# Altium footprint library Mechanical.PcbLib: 3 footprints
Each footprint in its own frame and in the unit in brackets; x right, y up, seen from the top. Pads: shape width x height; smd on the part's side, far side on the other; paste and mask are expansions set on the pad; w line width, h text height; cw(c..) or ccw(c..) is an arc to the next point about the centre after c.
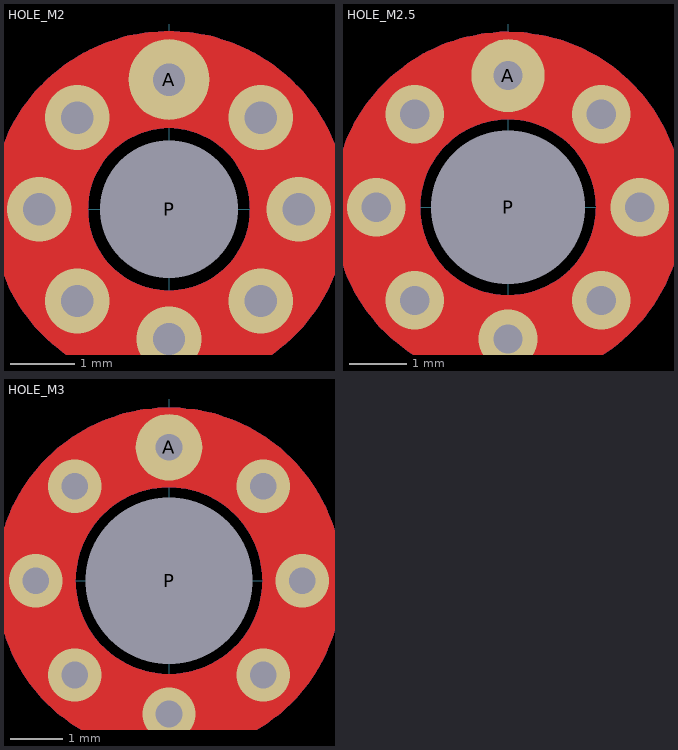
[diagram p0: the footprints below, top view; thin cyan lines are the x and y axes]

## HOLE_M2 [mil] "Example Component"
height 20
pads (2):
  round 50 smd paste-20: A(0,80)
  round 75 hole 85 unplated mask+30: P(0,0)
via 80,0 diameter 40 hole 20
via 56.57,56.57 diameter 40 hole 20
via 0,80 diameter 40 hole 20
via -56.57,56.57 diameter 40 hole 20
via -80,0 diameter 40 hole 20
via -56.57,-56.57 diameter 40 hole 20
via 0,-80 diameter 40 hole 20
via 56.57,-56.57 diameter 40 hole 20
Top Layer:
  circle w60: c0,0 r80
Bottom Layer:
  circle w60: c0,0 r80
Top Designator:
  text ".Designator" at -127.64,-12.5 h35

## HOLE_M2.5 [mil] "Example Component"
height 20
pads (2):
  round 50 smd paste-20: A(0,90)
  round 95 hole 105 unplated mask+30: P(0,0)
via 90,0 diameter 40 hole 20
via 0,90 diameter 40 hole 20
via -90,0 diameter 40 hole 20
via 0,-90 diameter 40 hole 20
via 63.64,63.64 diameter 40 hole 20
via -63.64,63.64 diameter 40 hole 20
via -63.64,-63.64 diameter 40 hole 20
via 63.64,-63.64 diameter 40 hole 20
Top Layer:
  circle w60: c0,0 r90
Bottom Layer:
  circle w60: c0,0 r90
Top Designator:
  text ".Designator" at -127.64,-12.5 h35

## HOLE_M3 [mil] "Example Component"
height 20
pads (2):
  round 50 smd paste-20: A(0,100)
  round 120 hole 125 unplated mask+30: P(0,0)
via 70.71,-70.71 diameter 40 hole 20
via -70.71,-70.71 diameter 40 hole 20
via -70.71,70.71 diameter 40 hole 20
via 70.71,70.71 diameter 40 hole 20
via 0,-100 diameter 40 hole 20
via -100,0 diameter 40 hole 20
via 0,100 diameter 40 hole 20
via 100,0 diameter 40 hole 20
Top Layer:
  circle w60: c0,0 r100
Bottom Layer:
  circle w60: c0,0 r100
Top Designator:
  text ".Designator" at -127.64,-12.5 h35